# EAGLE library part LT3467* (library linear-technology)
1.1A Step-Up DC/DC Converter with Integrated Soft-Start
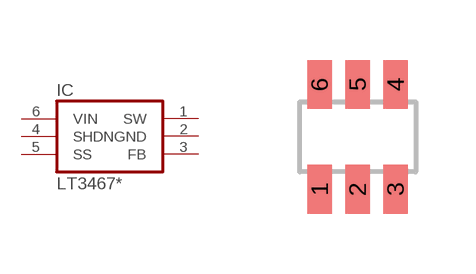
[diagram p27: symbol with the pads of TSOT23-6; footprint TSOT23-6]

Designator prefix IC

## LT3467AES6, LT3467ES6  [TSOT23-6]
1  SW  out
2  GND  pas
3  FB  in
4  SHDN  in
5  SS  pas
6  VIN  in

## Footprint TSOT23-6 (pad centres in mm)
smd 0.622 x 1.22: 1 -0.95,-1.31; 2 0,-1.31; 3 0.95,-1.31; 4 0.95,1.31; 5 0,1.31; 6 -0.95,1.31